# Altium integrated library Altium_WE-PDA (rev23a).IntLib: 84 symbols (part 1 of 2)
Pins are listed as number, name and electrical type; pins without a type are passive.

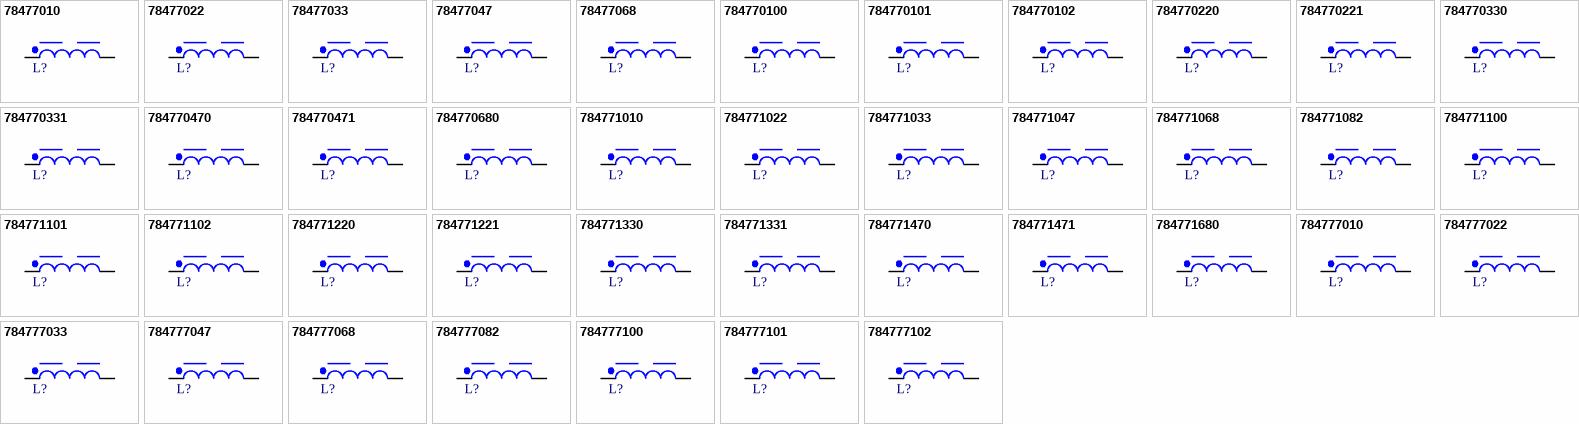
[diagram p0: symbols 78477010 to 784777102]

## 78477010
designator L?, comment 1uH  (value not drawn)
WE-PDA SMT Shielded Power Inductor, size 1280, 1uH, 8.3A, 9mOhm; Manufacturer Part Number: 78477010; Manufacturer: Wurth Elektronik; Case/Size Code: 1280; DC Resistance: 7.5mOhm; Saturation Current: 22A; Self Resonant Frequency: 144.7MHz; Category: Power Inductors; Match Code: WE-PDA; ComponentLink1Description: Website Link; ComponentLink1URL: https://www.we-online.com/redexpert/article/78477010?ad; ComponentLink2Description: Datasheet Link; ComponentLink2URL: https://www.we-online.com/redexpert/spec/78477010?ad; Mount: Surface Mount; Operating Temperature Max: 125°C; Operating Temperature Min: -40°C; Packaging: Tape and Reel; Length: 12mm; Width: 12mm; Height: 8mm; Automotive: Yes; DC Resistance Max: 9mOhm; Inductance: 1uH; Rated Current: 8.3A
footprint WE-PDA_1280
simulation model 1280_78477010_1u
pins: 1, 2

## 78477022
designator L?, comment 2.2uH  (value not drawn)
WE-PDA SMT Shielded Power Inductor, size 1280, 2.2uH, 7A, 14.5mOhm; Manufacturer Part Number: 78477022; Manufacturer: Wurth Elektronik; Case/Size Code: 1280; DC Resistance: 12mOhm; Saturation Current: 15A; Self Resonant Frequency: 85.6MHz; Category: Power Inductors; Match Code: WE-PDA; ComponentLink1Description: Website Link; ComponentLink1URL: https://www.we-online.com/redexpert/article/78477022?ad; ComponentLink2Description: Datasheet Link; ComponentLink2URL: https://www.we-online.com/redexpert/spec/78477022?ad; Mount: Surface Mount; Operating Temperature Max: 125°C; Operating Temperature Min: -40°C; Packaging: Tape and Reel; Length: 12mm; Width: 12mm; Height: 8mm; Automotive: Yes; DC Resistance Max: 14.5mOhm; Inductance: 2.2uH; Rated Current: 7A
footprint WE-PDA_1280
simulation model 1280_78477022_2.2u
pins: 1, 2

## 78477033
designator L?, comment 3.3uH  (value not drawn)
WE-PDA SMT Shielded Power Inductor, size 1280, 3.3uH, 6.6A, 17mOhm; Manufacturer Part Number: 78477033; Manufacturer: Wurth Elektronik; Case/Size Code: 1280; DC Resistance: 14mOhm; Saturation Current: 12A; Self Resonant Frequency: 72.5MHz; Category: Power Inductors; Match Code: WE-PDA; ComponentLink1Description: Website Link; ComponentLink1URL: https://www.we-online.com/redexpert/article/78477033?ad; ComponentLink2Description: Datasheet Link; ComponentLink2URL: https://www.we-online.com/redexpert/spec/78477033?ad; Mount: Surface Mount; Operating Temperature Max: 125°C; Operating Temperature Min: -40°C; Packaging: Tape and Reel; Length: 12mm; Width: 12mm; Height: 8mm; Automotive: Yes; DC Resistance Max: 17mOhm; Inductance: 3.3uH; Rated Current: 6.6A
footprint WE-PDA_1280
simulation model 1280_78477033_3.3u
pins: 1, 2

## 78477047
designator L?, comment 4.7uH  (value not drawn)
WE-PDA SMT Shielded Power Inductor, size 1280, 4.7uH, 6A, 20mOhm; Manufacturer Part Number: 78477047; Manufacturer: Wurth Elektronik; Case/Size Code: 1280; DC Resistance: 16.5mOhm; Saturation Current: 11A; Self Resonant Frequency: 58.1MHz; Category: Power Inductors; Match Code: WE-PDA; ComponentLink1Description: Website Link; ComponentLink1URL: https://www.we-online.com/redexpert/article/78477047?ad; ComponentLink2Description: Datasheet Link; ComponentLink2URL: https://www.we-online.com/redexpert/spec/78477047?ad; Mount: Surface Mount; Operating Temperature Max: 125°C; Operating Temperature Min: -40°C; Packaging: Tape and Reel; Length: 12mm; Width: 12mm; Height: 8mm; Automotive: Yes; DC Resistance Max: 20mOhm; Inductance: 4.7uH; Rated Current: 6A
footprint WE-PDA_1280
simulation model 1280_78477047_4.7u
pins: 1, 2

## 78477068
designator L?, comment 6.8uH  (value not drawn)
WE-PDA SMT Shielded Power Inductor, size 1280, 6.8uH, 5.2A, 25mOhm; Manufacturer Part Number: 78477068; Manufacturer: Wurth Elektronik; Case/Size Code: 1280; DC Resistance: 21mOhm; Saturation Current: 8.5A; Self Resonant Frequency: 42.1MHz; Category: Power Inductors; Match Code: WE-PDA; ComponentLink1Description: Website Link; ComponentLink1URL: https://www.we-online.com/redexpert/article/78477068?ad; ComponentLink2Description: Datasheet Link; ComponentLink2URL: https://www.we-online.com/redexpert/spec/78477068?ad; Mount: Surface Mount; Operating Temperature Max: 125°C; Operating Temperature Min: -40°C; Packaging: Tape and Reel; Length: 12mm; Width: 12mm; Height: 8mm; Automotive: Yes; DC Resistance Max: 25mOhm; Inductance: 6.8uH; Rated Current: 5.2A
footprint WE-PDA_1280
simulation model 1280_78477068_6.8u
pins: 1, 2

## 784770100
designator L?, comment 10uH  (value not drawn)
WE-PDA SMT Shielded Power Inductor, size 1280, 10uH, 5A, 31mOhm; Manufacturer Part Number: 784770100; Manufacturer: Wurth Elektronik; Case/Size Code: 1280; DC Resistance: 26mOhm; Saturation Current: 6.8A; Self Resonant Frequency: 28.3MHz; Category: Power Inductors; Match Code: WE-PDA; ComponentLink1Description: Website Link; ComponentLink1URL: https://www.we-online.com/redexpert/article/784770100?ad; ComponentLink2Description: Datasheet Link; ComponentLink2URL: https://www.we-online.com/redexpert/spec/784770100?ad; Mount: Surface Mount; Operating Temperature Max: 125°C; Operating Temperature Min: -40°C; Packaging: Tape and Reel; Length: 12mm; Width: 12mm; Height: 8mm; Automotive: Yes; DC Resistance Max: 31mOhm; Inductance: 10uH; Rated Current: 5A
footprint WE-PDA_1280
simulation model 1280_784770100_10u
pins: 1, 2

## 784770101
designator L?, comment 100uH  (value not drawn)
WE-PDA SMT Shielded Power Inductor, size 1280, 100uH, 2.1A, 144mOhm; Manufacturer Part Number: 784770101; Manufacturer: Wurth Elektronik; Case/Size Code: 1280; DC Resistance: 120mOhm; Saturation Current: 2.3A; Self Resonant Frequency: 5.2MHz; Category: Power Inductors; Match Code: WE-PDA; ComponentLink1Description: Website Link; ComponentLink1URL: https://www.we-online.com/redexpert/article/784770101?ad; ComponentLink2Description: Datasheet Link; ComponentLink2URL: https://www.we-online.com/redexpert/spec/784770101?ad; Mount: Surface Mount; Operating Temperature Max: 125°C; Operating Temperature Min: -40°C; Packaging: Tape and Reel; Length: 12mm; Width: 12mm; Height: 8mm; Automotive: Yes; DC Resistance Max: 144mOhm; Inductance: 100uH; Rated Current: 2.1A
footprint WE-PDA_1280
simulation model 1280_784770101_100u
pins: 1, 2

## 784770102
designator L?, comment 1000uH  (value not drawn)
WE-PDA SMT Shielded Power Inductor, size 1280, 1000uH, 0.72A, 1200mOhm; Manufacturer Part Number: 784770102; Manufacturer: Wurth Elektronik; Case/Size Code: 1280; DC Resistance: 1000mOhm; Saturation Current: 0.8A; Self Resonant Frequency: 1.6MHz; Category: Power Inductors; Match Code: WE-PDA; ComponentLink1Description: Website Link; ComponentLink1URL: https://www.we-online.com/redexpert/article/784770102?ad; ComponentLink2Description: Datasheet Link; ComponentLink2URL: https://www.we-online.com/redexpert/spec/784770102?ad; Mount: Surface Mount; Operating Temperature Max: 125°C; Operating Temperature Min: -40°C; Packaging: Tape and Reel; Length: 12mm; Width: 12mm; Height: 8mm; Automotive: Yes; DC Resistance Max: 1200mOhm; Inductance: 1000uH; Rated Current: 0.72A
footprint WE-PDA_1280
simulation model 1280_784770102_1000u
pins: 1, 2

## 784770220
designator L?, comment 22uH  (value not drawn)
WE-PDA SMT Shielded Power Inductor, size 1280, 22uH, 4A, 44.5mOhm; Manufacturer Part Number: 784770220; Manufacturer: Wurth Elektronik; Case/Size Code: 1280; DC Resistance: 37mOhm; Saturation Current: 4.7A; Self Resonant Frequency: 15.6MHz; Category: Power Inductors; Match Code: WE-PDA; ComponentLink1Description: Website Link; ComponentLink1URL: https://www.we-online.com/redexpert/article/784770220?ad; ComponentLink2Description: Datasheet Link; ComponentLink2URL: https://www.we-online.com/redexpert/spec/784770220?ad; Mount: Surface Mount; Operating Temperature Max: 125°C; Operating Temperature Min: -40°C; Packaging: Tape and Reel; Length: 12mm; Width: 12mm; Height: 8mm; Automotive: Yes; DC Resistance Max: 44.5mOhm; Inductance: 22uH; Rated Current: 4A
footprint WE-PDA_1280
simulation model 1280_784770220_22u
pins: 1, 2

## 784770221
designator L?, comment 220uH  (value not drawn)
WE-PDA SMT Shielded Power Inductor, size 1280, 220uH, 1.2A, 300mOhm; Manufacturer Part Number: 784770221; Manufacturer: Wurth Elektronik; Case/Size Code: 1280; DC Resistance: 250mOhm; Saturation Current: 1.4A; Self Resonant Frequency: 3.3MHz; Category: Power Inductors; Match Code: WE-PDA; ComponentLink1Description: Website Link; ComponentLink1URL: https://www.we-online.com/redexpert/article/784770221?ad; ComponentLink2Description: Datasheet Link; ComponentLink2URL: https://www.we-online.com/redexpert/spec/784770221?ad; Mount: Surface Mount; Operating Temperature Max: 125°C; Operating Temperature Min: -40°C; Packaging: Tape and Reel; Length: 12mm; Width: 12mm; Height: 8mm; Automotive: Yes; DC Resistance Max: 300mOhm; Inductance: 220uH; Rated Current: 1.2A
footprint WE-PDA_1280
simulation model 1280_784770221_220u
pins: 1, 2

## 784770330
designator L?, comment 33uH  (value not drawn)
WE-PDA SMT Shielded Power Inductor, size 1280, 33uH, 3.4A, 55mOhm; Manufacturer Part Number: 784770330; Manufacturer: Wurth Elektronik; Case/Size Code: 1280; DC Resistance: 45.8mOhm; Saturation Current: 4A; Self Resonant Frequency: 9.7MHz; Category: Power Inductors; Match Code: WE-PDA; ComponentLink1Description: Website Link; ComponentLink1URL: https://www.we-online.com/redexpert/article/784770330?ad; ComponentLink2Description: Datasheet Link; ComponentLink2URL: https://www.we-online.com/redexpert/spec/784770330?ad; Mount: Surface Mount; Operating Temperature Max: 125°C; Operating Temperature Min: -40°C; Packaging: Tape and Reel; Length: 12mm; Width: 12mm; Height: 8mm; Automotive: Yes; DC Resistance Max: 55mOhm; Inductance: 33uH; Rated Current: 3.4A
footprint WE-PDA_1280
simulation model 1280_784770330_33u
pins: 1, 2

## 784770331
designator L?, comment 330uH  (value not drawn)
WE-PDA SMT Shielded Power Inductor, size 1280, 330uH, 1A, 468mOhm; Manufacturer Part Number: 784770331; Manufacturer: Wurth Elektronik; Case/Size Code: 1280; DC Resistance: 390mOhm; Saturation Current: 1.2A; Self Resonant Frequency: 2.5MHz; Category: Power Inductors; Match Code: WE-PDA; ComponentLink1Description: Website Link; ComponentLink1URL: https://www.we-online.com/redexpert/article/784770331?ad; ComponentLink2Description: Datasheet Link; ComponentLink2URL: https://www.we-online.com/redexpert/spec/784770331?ad; Mount: Surface Mount; Operating Temperature Max: 125°C; Operating Temperature Min: -40°C; Packaging: Tape and Reel; Length: 12mm; Width: 12mm; Height: 8mm; Automotive: Yes; DC Resistance Max: 468mOhm; Inductance: 330uH; Rated Current: 1A
footprint WE-PDA_1280
simulation model 1280_784770331_330u
pins: 1, 2

## 784770470
designator L?, comment 47uH  (value not drawn)
WE-PDA SMT Shielded Power Inductor, size 1280, 47uH, 3.1A, 71mOhm; Manufacturer Part Number: 784770470; Manufacturer: Wurth Elektronik; Case/Size Code: 1280; DC Resistance: 59mOhm; Saturation Current: 3.4A; Self Resonant Frequency: 7.9MHz; Category: Power Inductors; Match Code: WE-PDA; ComponentLink1Description: Website Link; ComponentLink1URL: https://www.we-online.com/redexpert/article/784770470?ad; ComponentLink2Description: Datasheet Link; ComponentLink2URL: https://www.we-online.com/redexpert/spec/784770470?ad; Mount: Surface Mount; Operating Temperature Max: 125°C; Operating Temperature Min: -40°C; Packaging: Tape and Reel; Length: 12mm; Width: 12mm; Height: 8mm; Automotive: Yes; DC Resistance Max: 71mOhm; Inductance: 47uH; Rated Current: 3.1A
footprint WE-PDA_1280
simulation model 1280_784770470_47u
pins: 1, 2

## 784770471
designator L?, comment 470uH  (value not drawn)
WE-PDA SMT Shielded Power Inductor, size 1280, 470uH, 0.8A, 570mOhm; Manufacturer Part Number: 784770471; Manufacturer: Wurth Elektronik; Case/Size Code: 1280; DC Resistance: 475mOhm; Saturation Current: 1A; Self Resonant Frequency: 2MHz; Category: Power Inductors; Match Code: WE-PDA; ComponentLink1Description: Website Link; ComponentLink1URL: https://www.we-online.com/redexpert/article/784770471?ad; ComponentLink2Description: Datasheet Link; ComponentLink2URL: https://www.we-online.com/redexpert/spec/784770471?ad; Mount: Surface Mount; Operating Temperature Max: 125°C; Operating Temperature Min: -40°C; Packaging: Tape and Reel; Length: 12mm; Width: 12mm; Height: 8mm; Automotive: Yes; DC Resistance Max: 570mOhm; Inductance: 470uH; Rated Current: 0.8A
footprint WE-PDA_1280
simulation model 1280_784770471_470u
pins: 1, 2

## 784770680
designator L?, comment 68uH  (value not drawn)
WE-PDA SMT Shielded Power Inductor, size 1280, 68uH, 2.6A, 98.5mOhm; Manufacturer Part Number: 784770680; Manufacturer: Wurth Elektronik; Case/Size Code: 1280; DC Resistance: 82mOhm; Saturation Current: 2.8A; Self Resonant Frequency: 6.3MHz; Category: Power Inductors; Match Code: WE-PDA; ComponentLink1Description: Website Link; ComponentLink1URL: https://www.we-online.com/redexpert/article/784770680?ad; ComponentLink2Description: Datasheet Link; ComponentLink2URL: https://www.we-online.com/redexpert/spec/784770680?ad; Mount: Surface Mount; Operating Temperature Max: 125°C; Operating Temperature Min: -40°C; Packaging: Tape and Reel; Length: 12mm; Width: 12mm; Height: 8mm; Automotive: Yes; DC Resistance Max: 98.5mOhm; Inductance: 68uH; Rated Current: 2.6A
footprint WE-PDA_1280
simulation model 1280_784770680_68u
pins: 1, 2

## 784771010
designator L?, comment 1uH  (value not drawn)
WE-PDA SMT Shielded Power Inductor, size 1260, 1uH, 9A, 8.5mOhm; Manufacturer Part Number: 784771010; Manufacturer: Wurth Elektronik; Case/Size Code: 1260; DC Resistance: 7mOhm; Saturation Current: 16.5A; Self Resonant Frequency: 139.4MHz; Category: Power Inductors; Match Code: WE-PDA; ComponentLink1Description: Website Link; ComponentLink1URL: https://www.we-online.com/redexpert/article/784771010?ad; ComponentLink2Description: Datasheet Link; ComponentLink2URL: https://www.we-online.com/redexpert/spec/784771010?ad; Mount: Surface Mount; Operating Temperature Max: 125°C; Operating Temperature Min: -40°C; Packaging: Tape and Reel; Length: 12mm; Width: 12mm; Height: 6mm; Automotive: Yes; DC Resistance Max: 8.5mOhm; Inductance: 1uH; Rated Current: 9A
footprint WE-PDA_1260
simulation model 1260_784771010_1u
pins: 1, 2

## 784771022
designator L?, comment 2.2uH  (value not drawn)
WE-PDA SMT Shielded Power Inductor, size 1260, 2.2uH, 7.2A, 12.5mOhm; Manufacturer Part Number: 784771022; Manufacturer: Wurth Elektronik; Case/Size Code: 1260; DC Resistance: 10.5mOhm; Saturation Current: 10.5A; Self Resonant Frequency: 82.7MHz; Category: Power Inductors; Match Code: WE-PDA; ComponentLink1Description: Website Link; ComponentLink1URL: https://www.we-online.com/redexpert/article/784771022?ad; ComponentLink2Description: Datasheet Link; ComponentLink2URL: https://www.we-online.com/redexpert/spec/784771022?ad; Mount: Surface Mount; Operating Temperature Max: 125°C; Operating Temperature Min: -40°C; Packaging: Tape and Reel; Length: 12mm; Width: 12mm; Height: 6mm; Automotive: Yes; DC Resistance Max: 12.5mOhm; Inductance: 2.2uH; Rated Current: 7.2A
footprint WE-PDA_1260
simulation model 1260_784771022_2.2u
pins: 1, 2

## 784771033
designator L?, comment 3.3uH  (value not drawn)
WE-PDA SMT Shielded Power Inductor, size 1260, 3.3uH, 6.5A, 14.5mOhm; Manufacturer Part Number: 784771033; Manufacturer: Wurth Elektronik; Case/Size Code: 1260; DC Resistance: 12mOhm; Saturation Current: 9A; Self Resonant Frequency: 68.1MHz; Category: Power Inductors; Match Code: WE-PDA; ComponentLink1Description: Website Link; ComponentLink1URL: https://www.we-online.com/redexpert/article/784771033?ad; ComponentLink2Description: Datasheet Link; ComponentLink2URL: https://www.we-online.com/redexpert/spec/784771033?ad; Mount: Surface Mount; Operating Temperature Max: 125°C; Operating Temperature Min: -40°C; Packaging: Tape and Reel; Length: 12mm; Width: 12mm; Height: 6mm; Automotive: Yes; DC Resistance Max: 14.5mOhm; Inductance: 3.3uH; Rated Current: 6.5A
footprint WE-PDA_1260
simulation model 1260_784771033_3.3u
pins: 1, 2

## 784771047
designator L?, comment 4.7uH  (value not drawn)
WE-PDA SMT Shielded Power Inductor, size 1260, 4.7uH, 6.2A, 17.5mOhm; Manufacturer Part Number: 784771047; Manufacturer: Wurth Elektronik; Case/Size Code: 1260; DC Resistance: 14.5mOhm; Saturation Current: 8A; Self Resonant Frequency: 49.8MHz; Category: Power Inductors; Match Code: WE-PDA; ComponentLink1Description: Website Link; ComponentLink1URL: https://www.we-online.com/redexpert/article/784771047?ad; ComponentLink2Description: Datasheet Link; ComponentLink2URL: https://www.we-online.com/redexpert/spec/784771047?ad; Mount: Surface Mount; Operating Temperature Max: 125°C; Operating Temperature Min: -40°C; Packaging: Tape and Reel; Length: 12mm; Width: 12mm; Height: 6mm; Automotive: Yes; DC Resistance Max: 17.5mOhm; Inductance: 4.7uH; Rated Current: 6.2A
footprint WE-PDA_1260
simulation model 1260_784771047_4.7u
pins: 1, 2

## 784771068
designator L?, comment 6.8uH  (value not drawn)
WE-PDA SMT Shielded Power Inductor, size 1260, 6.8uH, 5.5A, 21.5mOhm; Manufacturer Part Number: 784771068; Manufacturer: Wurth Elektronik; Case/Size Code: 1260; DC Resistance: 18mOhm; Saturation Current: 6A; Self Resonant Frequency: 25.5MHz; Category: Power Inductors; Match Code: WE-PDA; ComponentLink1Description: Website Link; ComponentLink1URL: https://www.we-online.com/redexpert/article/784771068?ad; ComponentLink2Description: Datasheet Link; ComponentLink2URL: https://www.we-online.com/redexpert/spec/784771068?ad; Mount: Surface Mount; Operating Temperature Max: 125°C; Operating Temperature Min: -40°C; Packaging: Tape and Reel; Length: 12mm; Width: 12mm; Height: 6mm; Automotive: Yes; DC Resistance Max: 21.5mOhm; Inductance: 6.8uH; Rated Current: 5.5A
footprint WE-PDA_1260
simulation model 1260_784771068_6.8u
pins: 1, 2

## 784771082
designator L?, comment 8.2uH  (value not drawn)
WE-PDA SMT Shielded Power Inductor, size 1260, 8.2uH, 5.05A, 24mOhm; Manufacturer Part Number: 784771082; Manufacturer: Wurth Elektronik; Case/Size Code: 1260; DC Resistance: 20mOhm; Saturation Current: 5.5A; Self Resonant Frequency: 25.2MHz; Category: Power Inductors; Match Code: WE-PDA; ComponentLink1Description: Website Link; ComponentLink1URL: https://www.we-online.com/redexpert/article/784771082?ad; ComponentLink2Description: Datasheet Link; ComponentLink2URL: https://www.we-online.com/redexpert/spec/784771082?ad; Mount: Surface Mount; Operating Temperature Max: 125°C; Operating Temperature Min: -40°C; Packaging: Tape and Reel; Length: 12mm; Width: 12mm; Height: 6mm; Automotive: Yes; DC Resistance Max: 24mOhm; Inductance: 8.2uH; Rated Current: 5.05A
footprint WE-PDA_1260
simulation model 1260_784771082_8.2u
pins: 1, 2

## 784771100
designator L?, comment 10uH  (value not drawn)
WE-PDA SMT Shielded Power Inductor, size 1260, 10uH, 5A, 26.5mOhm; Manufacturer Part Number: 784771100; Manufacturer: Wurth Elektronik; Case/Size Code: 1260; DC Resistance: 22mOhm; Saturation Current: 5.25A; Self Resonant Frequency: 22.3MHz; Category: Power Inductors; Match Code: WE-PDA; ComponentLink1Description: Website Link; ComponentLink1URL: https://www.we-online.com/redexpert/article/784771100?ad; ComponentLink2Description: Datasheet Link; ComponentLink2URL: https://www.we-online.com/redexpert/spec/784771100?ad; Mount: Surface Mount; Operating Temperature Max: 125°C; Operating Temperature Min: -40°C; Packaging: Tape and Reel; Length: 12mm; Width: 12mm; Height: 6mm; Automotive: Yes; DC Resistance Max: 26.5mOhm; Inductance: 10uH; Rated Current: 5A
footprint WE-PDA_1260
simulation model 1260_784771100_10u
pins: 1, 2

## 784771101
designator L?, comment 100uH  (value not drawn)
WE-PDA SMT Shielded Power Inductor, size 1260, 100uH, 1.5A, 174mOhm; Manufacturer Part Number: 784771101; Manufacturer: Wurth Elektronik; Case/Size Code: 1260; DC Resistance: 145mOhm; Saturation Current: 1.7A; Self Resonant Frequency: 6.5MHz; Category: Power Inductors; Match Code: WE-PDA; ComponentLink1Description: Website Link; ComponentLink1URL: https://www.we-online.com/redexpert/article/784771101?ad; ComponentLink2Description: Datasheet Link; ComponentLink2URL: https://www.we-online.com/redexpert/spec/784771101?ad; Mount: Surface Mount; Operating Temperature Max: 125°C; Operating Temperature Min: -40°C; Packaging: Tape and Reel; Length: 12mm; Width: 12mm; Height: 6mm; Automotive: Yes; DC Resistance Max: 174mOhm; Inductance: 100uH; Rated Current: 1.5A
footprint WE-PDA_1260
simulation model 1260_784771101_100u
pins: 1, 2

## 784771102
designator L?, comment 1000uH  (value not drawn)
WE-PDA SMT Shielded Power Inductor, size 1260, 1000uH, 0.48A, 1705mOhm; Manufacturer Part Number: 784771102; Manufacturer: Wurth Elektronik; Case/Size Code: 1260; DC Resistance: 1420mOhm; Saturation Current: 0.53A; Self Resonant Frequency: 1.9MHz; Category: Power Inductors; Match Code: WE-PDA; ComponentLink1Description: Website Link; ComponentLink1URL: https://www.we-online.com/redexpert/article/784771102?ad; ComponentLink2Description: Datasheet Link; ComponentLink2URL: https://www.we-online.com/redexpert/spec/784771102?ad; Mount: Surface Mount; Operating Temperature Max: 125°C; Operating Temperature Min: -40°C; Packaging: Tape and Reel; Length: 12mm; Width: 12mm; Height: 6mm; Automotive: Yes; DC Resistance Max: 1705mOhm; Inductance: 1000uH; Rated Current: 0.48A
footprint WE-PDA_1260
simulation model 1260_784771102_1000u
pins: 1, 2

## 784771220
designator L?, comment 22uH  (value not drawn)
WE-PDA SMT Shielded Power Inductor, size 1260, 22uH, 3.2A, 40mOhm; Manufacturer Part Number: 784771220; Manufacturer: Wurth Elektronik; Case/Size Code: 1260; DC Resistance: 33.5mOhm; Saturation Current: 3.5A; Self Resonant Frequency: 14.9MHz; Category: Power Inductors; Match Code: WE-PDA; ComponentLink1Description: Website Link; ComponentLink1URL: https://www.we-online.com/redexpert/article/784771220?ad; ComponentLink2Description: Datasheet Link; ComponentLink2URL: https://www.we-online.com/redexpert/spec/784771220?ad; Mount: Surface Mount; Operating Temperature Max: 125°C; Operating Temperature Min: -40°C; Packaging: Tape and Reel; Length: 12mm; Width: 12mm; Height: 6mm; Automotive: Yes; DC Resistance Max: 40mOhm; Inductance: 22uH; Rated Current: 3.2A
footprint WE-PDA_1260
simulation model 1260_784771220_22u
pins: 1, 2

## 784771221
designator L?, comment 220uH  (value not drawn)
WE-PDA SMT Shielded Power Inductor, size 1260, 220uH, 0.99A, 348mOhm; Manufacturer Part Number: 784771221; Manufacturer: Wurth Elektronik; Case/Size Code: 1260; DC Resistance: 290mOhm; Saturation Current: 1.1A; Self Resonant Frequency: 3.9MHz; Category: Power Inductors; Match Code: WE-PDA; ComponentLink1Description: Website Link; ComponentLink1URL: https://www.we-online.com/redexpert/article/784771221?ad; ComponentLink2Description: Datasheet Link; ComponentLink2URL: https://www.we-online.com/redexpert/spec/784771221?ad; Mount: Surface Mount; Operating Temperature Max: 125°C; Operating Temperature Min: -40°C; Packaging: Tape and Reel; Length: 12mm; Width: 12mm; Height: 6mm; Automotive: Yes; DC Resistance Max: 348mOhm; Inductance: 220uH; Rated Current: 0.99A
footprint WE-PDA_1260
simulation model 1260_784771221_220u
pins: 1, 2

## 784771330
designator L?, comment 33uH  (value not drawn)
WE-PDA SMT Shielded Power Inductor, size 1260, 33uH, 2.8A, 62.5mOhm; Manufacturer Part Number: 784771330; Manufacturer: Wurth Elektronik; Case/Size Code: 1260; DC Resistance: 52mOhm; Saturation Current: 2.9A; Self Resonant Frequency: 11.5MHz; Category: Power Inductors; Match Code: WE-PDA; ComponentLink1Description: Website Link; ComponentLink1URL: https://www.we-online.com/redexpert/article/784771330?ad; ComponentLink2Description: Datasheet Link; ComponentLink2URL: https://www.we-online.com/redexpert/spec/784771330?ad; Mount: Surface Mount; Operating Temperature Max: 125°C; Operating Temperature Min: -40°C; Packaging: Tape and Reel; Length: 12mm; Width: 12mm; Height: 6mm; Automotive: Yes; DC Resistance Max: 62.5mOhm; Inductance: 33uH; Rated Current: 2.8A
footprint WE-PDA_1260
simulation model 1260_784771330_33u
pins: 1, 2

## 784771331
designator L?, comment 330uH  (value not drawn)
WE-PDA SMT Shielded Power Inductor, size 1260, 330uH, 0.8A, 594mOhm; Manufacturer Part Number: 784771331; Manufacturer: Wurth Elektronik; Case/Size Code: 1260; DC Resistance: 495mOhm; Saturation Current: 0.9A; Self Resonant Frequency: 3.3MHz; Category: Power Inductors; Match Code: WE-PDA; ComponentLink1Description: Website Link; ComponentLink1URL: https://www.we-online.com/redexpert/article/784771331?ad; ComponentLink2Description: Datasheet Link; ComponentLink2URL: https://www.we-online.com/redexpert/spec/784771331?ad; Mount: Surface Mount; Operating Temperature Max: 125°C; Operating Temperature Min: -40°C; Packaging: Tape and Reel; Length: 12mm; Width: 12mm; Height: 6mm; Automotive: Yes; DC Resistance Max: 594mOhm; Inductance: 330uH; Rated Current: 0.8A
footprint WE-PDA_1260
simulation model 1260_784771331_330u
pins: 1, 2

## 784771470
designator L?, comment 47uH  (value not drawn)
WE-PDA SMT Shielded Power Inductor, size 1260, 47uH, 2.3A, 77mOhm; Manufacturer Part Number: 784771470; Manufacturer: Wurth Elektronik; Case/Size Code: 1260; DC Resistance: 64mOhm; Saturation Current: 2.5A; Self Resonant Frequency: 10.1MHz; Category: Power Inductors; Match Code: WE-PDA; ComponentLink1Description: Website Link; ComponentLink1URL: https://www.we-online.com/redexpert/article/784771470?ad; ComponentLink2Description: Datasheet Link; ComponentLink2URL: https://www.we-online.com/redexpert/spec/784771470?ad; Mount: Surface Mount; Operating Temperature Max: 125°C; Operating Temperature Min: -40°C; Packaging: Tape and Reel; Length: 12mm; Width: 12mm; Height: 6mm; Automotive: Yes; DC Resistance Max: 77mOhm; Inductance: 47uH; Rated Current: 2.3A
footprint WE-PDA_1260
simulation model 1260_784771470_47u
pins: 1, 2

## 784771471
designator L?, comment 470uH  (value not drawn)
WE-PDA SMT Shielded Power Inductor, size 1260, 470uH, 0.65A, 706mOhm; Manufacturer Part Number: 784771471; Manufacturer: Wurth Elektronik; Case/Size Code: 1260; DC Resistance: 588mOhm; Saturation Current: 0.75A; Self Resonant Frequency: 2.9MHz; Category: Power Inductors; Match Code: WE-PDA; ComponentLink1Description: Website Link; ComponentLink1URL: https://www.we-online.com/redexpert/article/784771471?ad; ComponentLink2Description: Datasheet Link; ComponentLink2URL: https://www.we-online.com/redexpert/spec/784771471?ad; Mount: Surface Mount; Operating Temperature Max: 125°C; Operating Temperature Min: -40°C; Packaging: Tape and Reel; Length: 12mm; Width: 12mm; Height: 6mm; Automotive: Yes; DC Resistance Max: 706mOhm; Inductance: 470uH; Rated Current: 0.65A
footprint WE-PDA_1260
simulation model 1260_784771471_470u
pins: 1, 2

## 784771680
designator L?, comment 68uH  (value not drawn)
WE-PDA SMT Shielded Power Inductor, size 1260, 68uH, 1.8A, 138mOhm; Manufacturer Part Number: 784771680; Manufacturer: Wurth Elektronik; Case/Size Code: 1260; DC Resistance: 115mOhm; Saturation Current: 2A; Self Resonant Frequency: 8MHz; Category: Power Inductors; Match Code: WE-PDA; ComponentLink1Description: Website Link; ComponentLink1URL: https://www.we-online.com/redexpert/article/784771680?ad; ComponentLink2Description: Datasheet Link; ComponentLink2URL: https://www.we-online.com/redexpert/spec/784771680?ad; Mount: Surface Mount; Operating Temperature Max: 125°C; Operating Temperature Min: -40°C; Packaging: Tape and Reel; Length: 12mm; Width: 12mm; Height: 6mm; Automotive: Yes; DC Resistance Max: 138mOhm; Inductance: 68uH; Rated Current: 1.8A
footprint WE-PDA_1260
simulation model 1260_784771680_68u
pins: 1, 2

## 784777010
designator L?, comment 1uH  (value not drawn)
WE-PDA SMT Shielded Power Inductor, size 7345, 1uH, 3.7A, 38.5mOhm; Manufacturer Part Number: 784777010; Manufacturer: Wurth Elektronik; Case/Size Code: 7345; DC Resistance: 32mOhm; Saturation Current: 8A; Self Resonant Frequency: 195MHz; Category: Power Inductors; Match Code: WE-PDA; ComponentLink1Description: Website Link; ComponentLink1URL: https://www.we-online.com/redexpert/article/784777010?ad; ComponentLink2Description: Datasheet Link; ComponentLink2URL: https://www.we-online.com/redexpert/spec/784777010?ad; Mount: Surface Mount; Operating Temperature Max: 125°C; Operating Temperature Min: -40°C; Packaging: Tape and Reel; Length: 7.3mm; Width: 7.3mm; Height: 4mm; Automotive: Yes; DC Resistance Max: 38.5mOhm; Inductance: 1uH; Rated Current: 3.7A
footprint WE-PDA_7345
simulation model 7345_784777010_1u
pins: 1, 2

## 784777022
designator L?, comment 2.2uH  (value not drawn)
WE-PDA SMT Shielded Power Inductor, size 7345, 2.2uH, 2.7A, 61mOhm; Manufacturer Part Number: 784777022; Manufacturer: Wurth Elektronik; Case/Size Code: 7345; DC Resistance: 51mOhm; Saturation Current: 5.25A; Self Resonant Frequency: 95.2MHz; Category: Power Inductors; Match Code: WE-PDA; ComponentLink1Description: Website Link; ComponentLink1URL: https://www.we-online.com/redexpert/article/784777022?ad; ComponentLink2Description: Datasheet Link; ComponentLink2URL: https://www.we-online.com/redexpert/spec/784777022?ad; Mount: Surface Mount; Operating Temperature Max: 125°C; Operating Temperature Min: -40°C; Packaging: Tape and Reel; Length: 7.3mm; Width: 7.3mm; Height: 4mm; Automotive: Yes; DC Resistance Max: 61mOhm; Inductance: 2.2uH; Rated Current: 2.7A
footprint WE-PDA_7345
simulation model 7345_784777022_2.2u
pins: 1, 2

## 784777033
designator L?, comment 3.3uH  (value not drawn)
WE-PDA SMT Shielded Power Inductor, size 7345, 3.3uH, 2.5A, 70mOhm; Manufacturer Part Number: 784777033; Manufacturer: Wurth Elektronik; Case/Size Code: 7345; DC Resistance: 58mOhm; Saturation Current: 4.7A; Self Resonant Frequency: 87.5MHz; Category: Power Inductors; Match Code: WE-PDA; ComponentLink1Description: Website Link; ComponentLink1URL: https://www.we-online.com/redexpert/article/784777033?ad; ComponentLink2Description: Datasheet Link; ComponentLink2URL: https://www.we-online.com/redexpert/spec/784777033?ad; Mount: Surface Mount; Operating Temperature Max: 125°C; Operating Temperature Min: -40°C; Packaging: Tape and Reel; Length: 7.3mm; Width: 7.3mm; Height: 4mm; Automotive: Yes; DC Resistance Max: 70mOhm; Inductance: 3.3uH; Rated Current: 2.5A
footprint WE-PDA_7345
simulation model 7345_784777033_3.3u
pins: 1, 2

## 784777047
designator L?, comment 4.7uH  (value not drawn)
WE-PDA SMT Shielded Power Inductor, size 7345, 4.7uH, 2.35A, 84mOhm; Manufacturer Part Number: 784777047; Manufacturer: Wurth Elektronik; Case/Size Code: 7345; DC Resistance: 70mOhm; Saturation Current: 3.7A; Self Resonant Frequency: 64.7MHz; Category: Power Inductors; Match Code: WE-PDA; ComponentLink1Description: Website Link; ComponentLink1URL: https://www.we-online.com/redexpert/article/784777047?ad; ComponentLink2Description: Datasheet Link; ComponentLink2URL: https://www.we-online.com/redexpert/spec/784777047?ad; Mount: Surface Mount; Operating Temperature Max: 125°C; Operating Temperature Min: -40°C; Packaging: Tape and Reel; Length: 7.3mm; Width: 7.3mm; Height: 4mm; Automotive: Yes; DC Resistance Max: 84mOhm; Inductance: 4.7uH; Rated Current: 2.35A
footprint WE-PDA_7345
simulation model 7345_784777047_4.7u
pins: 1, 2

## 784777068
designator L?, comment 6.8uH  (value not drawn)
WE-PDA SMT Shielded Power Inductor, size 7345, 6.8uH, 2.2A, 98mOhm; Manufacturer Part Number: 784777068; Manufacturer: Wurth Elektronik; Case/Size Code: 7345; DC Resistance: 83mOhm; Saturation Current: 3.2A; Self Resonant Frequency: 47.3MHz; Category: Power Inductors; Match Code: WE-PDA; ComponentLink1Description: Website Link; ComponentLink1URL: https://www.we-online.com/redexpert/article/784777068?ad; ComponentLink2Description: Datasheet Link; ComponentLink2URL: https://www.we-online.com/redexpert/spec/784777068?ad; Mount: Surface Mount; Operating Temperature Max: 125°C; Operating Temperature Min: -40°C; Packaging: Tape and Reel; Length: 7.3mm; Width: 7.3mm; Height: 4mm; Automotive: Yes; DC Resistance Max: 98mOhm; Inductance: 6.8uH; Rated Current: 2.2A
footprint WE-PDA_7345
simulation model 7345_784777068_6.8u
pins: 1, 2

## 784777082
designator L?, comment 8.2uH  (value not drawn)
WE-PDA SMT Shielded Power Inductor, size 7345, 8.2uH, 2A, 117mOhm; Manufacturer Part Number: 784777082; Manufacturer: Wurth Elektronik; Case/Size Code: 7345; DC Resistance: 97.5mOhm; Saturation Current: 2.8A; Self Resonant Frequency: 36.7MHz; Category: Power Inductors; Match Code: WE-PDA; ComponentLink1Description: Website Link; ComponentLink1URL: https://www.we-online.com/redexpert/article/784777082?ad; ComponentLink2Description: Datasheet Link; ComponentLink2URL: https://www.we-online.com/redexpert/spec/784777082?ad; Mount: Surface Mount; Operating Temperature Max: 125°C; Operating Temperature Min: -40°C; Packaging: Tape and Reel; Length: 7.3mm; Width: 7.3mm; Height: 4mm; Automotive: Yes; DC Resistance Max: 117mOhm; Inductance: 8.2uH; Rated Current: 2A
footprint WE-PDA_7345
simulation model 7345_784777082_8.2u
pins: 1, 2

## 784777100
designator L?, comment 10uH  (value not drawn)
WE-PDA SMT Shielded Power Inductor, size 7345, 10uH, 1.9A, 126mOhm; Manufacturer Part Number: 784777100; Manufacturer: Wurth Elektronik; Case/Size Code: 7345; DC Resistance: 105mOhm; Saturation Current: 2.6A; Self Resonant Frequency: 32.5MHz; Category: Power Inductors; Match Code: WE-PDA; ComponentLink1Description: Website Link; ComponentLink1URL: https://www.we-online.com/redexpert/article/784777100?ad; ComponentLink2Description: Datasheet Link; ComponentLink2URL: https://www.we-online.com/redexpert/spec/784777100?ad; Mount: Surface Mount; Operating Temperature Max: 125°C; Operating Temperature Min: -40°C; Packaging: Tape and Reel; Length: 7.3mm; Width: 7.3mm; Height: 4mm; Automotive: Yes; DC Resistance Max: 126mOhm; Inductance: 10uH; Rated Current: 1.9A
footprint WE-PDA_7345
simulation model 7345_784777100_10u
pins: 1, 2

## 784777101
designator L?, comment 100uH  (value not drawn)
WE-PDA SMT Shielded Power Inductor, size 7345, 100uH, 0.72A, 470mOhm; Manufacturer Part Number: 784777101; Manufacturer: Wurth Elektronik; Case/Size Code: 7345; DC Resistance: 390mOhm; Saturation Current: 0.8A; Self Resonant Frequency: 7.5MHz; Category: Power Inductors; Match Code: WE-PDA; ComponentLink1Description: Website Link; ComponentLink1URL: https://www.we-online.com/redexpert/article/784777101?ad; ComponentLink2Description: Datasheet Link; ComponentLink2URL: https://www.we-online.com/redexpert/spec/784777101?ad; Mount: Surface Mount; Operating Temperature Max: 125°C; Operating Temperature Min: -40°C; Packaging: Tape and Reel; Length: 7.3mm; Width: 7.3mm; Height: 4mm; Automotive: Yes; DC Resistance Max: 470mOhm; Inductance: 100uH; Rated Current: 0.72A
footprint WE-PDA_7345
simulation model 7345_784777101_100u
pins: 1, 2

## 784777102
designator L?, comment 1000uH  (value not drawn)
WE-PDA SMT Shielded Power Inductor, size 7345, 1000uH, 0.25A, 5750mOhm; Manufacturer Part Number: 784777102; Manufacturer: Wurth Elektronik; Case/Size Code: 7345; DC Resistance: 4800mOhm; Saturation Current: 0.28A; Self Resonant Frequency: 2MHz; Category: Power Inductors; Match Code: WE-PDA; ComponentLink1Description: Website Link; ComponentLink1URL: https://www.we-online.com/redexpert/article/784777102?ad; ComponentLink2Description: Datasheet Link; ComponentLink2URL: https://www.we-online.com/redexpert/spec/784777102?ad; Mount: Surface Mount; Operating Temperature Max: 125°C; Operating Temperature Min: -40°C; Packaging: Tape and Reel; Length: 7.3mm; Width: 7.3mm; Height: 4mm; Automotive: Yes; DC Resistance Max: 5750mOhm; Inductance: 1000uH; Rated Current: 0.25A
footprint WE-PDA_7345
simulation model 7345_784777102_1000u
pins: 1, 2

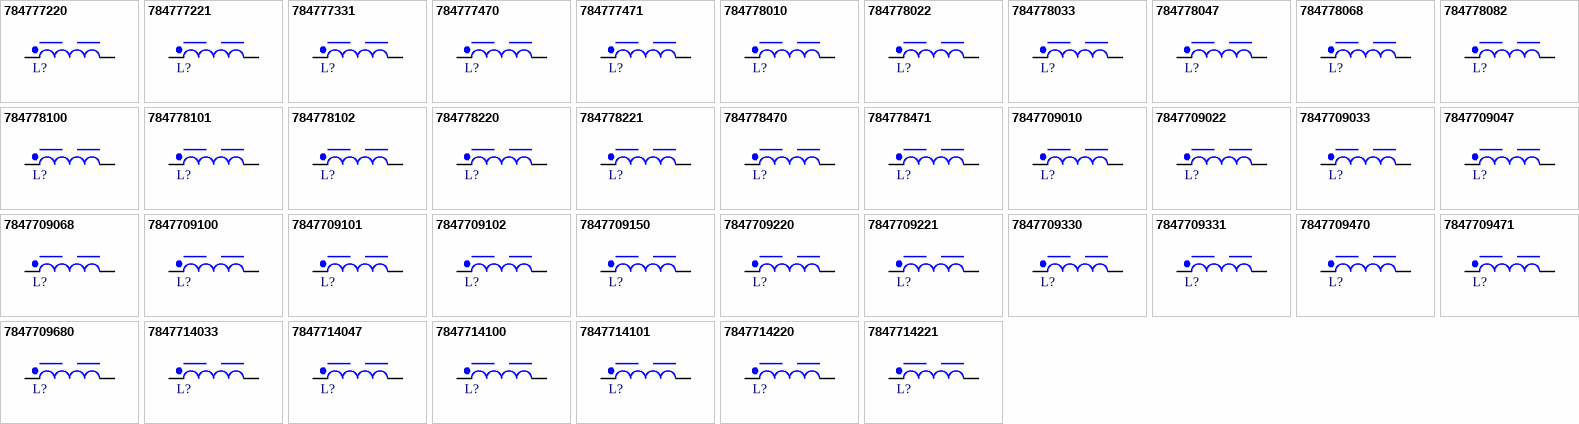
[diagram p1: symbols 784777220 to 7847714221]

## 784777220
designator L?, comment 22uH  (value not drawn)
WE-PDA SMT Shielded Power Inductor, size 7345, 22uH, 1.4A, 215mOhm; Manufacturer Part Number: 784777220; Manufacturer: Wurth Elektronik; Case/Size Code: 7345; DC Resistance: 180mOhm; Saturation Current: 1.8A; Self Resonant Frequency: 18.5MHz; Category: Power Inductors; Match Code: WE-PDA; ComponentLink1Description: Website Link; ComponentLink1URL: https://www.we-online.com/redexpert/article/784777220?ad; ComponentLink2Description: Datasheet Link; ComponentLink2URL: https://www.we-online.com/redexpert/spec/784777220?ad; Mount: Surface Mount; Operating Temperature Max: 125°C; Operating Temperature Min: -40°C; Packaging: Tape and Reel; Length: 7.3mm; Width: 7.3mm; Height: 4mm; Automotive: Yes; DC Resistance Max: 215mOhm; Inductance: 22uH; Rated Current: 1.4A
footprint WE-PDA_7345
simulation model 7345_784777220_22u
pins: 1, 2

## 784777221
designator L?, comment 220uH  (value not drawn)
WE-PDA SMT Shielded Power Inductor, size 7345, 220uH, 0.5A, 1135mOhm; Manufacturer Part Number: 784777221; Manufacturer: Wurth Elektronik; Case/Size Code: 7345; DC Resistance: 945mOhm; Saturation Current: 0.55A; Self Resonant Frequency: 3.9MHz; Category: Power Inductors; Match Code: WE-PDA; ComponentLink1Description: Website Link; ComponentLink1URL: https://www.we-online.com/redexpert/article/784777221?ad; ComponentLink2Description: Datasheet Link; ComponentLink2URL: https://www.we-online.com/redexpert/spec/784777221?ad; Mount: Surface Mount; Operating Temperature Max: 125°C; Operating Temperature Min: -40°C; Packaging: Tape and Reel; Length: 7.3mm; Width: 7.3mm; Height: 4mm; Automotive: Yes; DC Resistance Max: 1135mOhm; Inductance: 220uH; Rated Current: 0.5A
footprint WE-PDA_7345
simulation model 7345_784777221_220u
pins: 1, 2

## 784777331
designator L?, comment 330uH  (value not drawn)
WE-PDA SMT Shielded Power Inductor, size 7345, 330uH, 0.4A, 1872mOhm; Manufacturer Part Number: 784777331; Manufacturer: Wurth Elektronik; Case/Size Code: 7345; DC Resistance: 1560mOhm; Saturation Current: 0.45A; Self Resonant Frequency: 4.2MHz; Category: Power Inductors; Match Code: WE-PDA; ComponentLink1Description: Website Link; ComponentLink1URL: https://www.we-online.com/redexpert/article/784777331?ad; ComponentLink2Description: Datasheet Link; ComponentLink2URL: https://www.we-online.com/redexpert/spec/784777331?ad; Mount: Surface Mount; Operating Temperature Max: 125°C; Operating Temperature Min: -40°C; Packaging: Tape and Reel; Length: 7.3mm; Width: 7.3mm; Height: 4mm; Automotive: Yes; DC Resistance Max: 1872mOhm; Inductance: 330uH; Rated Current: 0.4A
footprint WE-PDA_7345
simulation model 7345_784777331_330u
pins: 1, 2

## 784777470
designator L?, comment 47uH  (value not drawn)
WE-PDA SMT Shielded Power Inductor, size 7345, 47uH, 1.15A, 300mOhm; Manufacturer Part Number: 784777470; Manufacturer: Wurth Elektronik; Case/Size Code: 7345; DC Resistance: 250mOhm; Saturation Current: 1.25A; Self Resonant Frequency: 10MHz; Category: Power Inductors; Match Code: WE-PDA; ComponentLink1Description: Website Link; ComponentLink1URL: https://www.we-online.com/redexpert/article/784777470?ad; ComponentLink2Description: Datasheet Link; ComponentLink2URL: https://www.we-online.com/redexpert/spec/784777470?ad; Mount: Surface Mount; Operating Temperature Max: 125°C; Operating Temperature Min: -40°C; Packaging: Tape and Reel; Length: 7.3mm; Width: 7.3mm; Height: 4mm; Automotive: Yes; DC Resistance Max: 300mOhm; Inductance: 47uH; Rated Current: 1.15A
footprint WE-PDA_7345
simulation model 7345_784777470_47u
pins: 1, 2

## 784777471
designator L?, comment 470uH  (value not drawn)
WE-PDA SMT Shielded Power Inductor, size 7345, 470uH, 0.35A, 2720mOhm; Manufacturer Part Number: 784777471; Manufacturer: Wurth Elektronik; Case/Size Code: 7345; DC Resistance: 2270mOhm; Saturation Current: 0.38A; Self Resonant Frequency: 2.9MHz; Category: Power Inductors; Match Code: WE-PDA; ComponentLink1Description: Website Link; ComponentLink1URL: https://www.we-online.com/redexpert/article/784777471?ad; ComponentLink2Description: Datasheet Link; ComponentLink2URL: https://www.we-online.com/redexpert/spec/784777471?ad; Mount: Surface Mount; Operating Temperature Max: 125°C; Operating Temperature Min: -40°C; Packaging: Tape and Reel; Length: 7.3mm; Width: 7.3mm; Height: 4mm; Automotive: Yes; DC Resistance Max: 2720mOhm; Inductance: 470uH; Rated Current: 0.35A
footprint WE-PDA_7345
simulation model 7345_784777471_470u
pins: 1, 2

## 784778010
designator L?, comment 1uH  (value not drawn)
WE-PDA SMT Shielded Power Inductor, size 7332, 1uH, 3.5A, 36mOhm; Manufacturer Part Number: 784778010; Manufacturer: Wurth Elektronik; Case/Size Code: 7332; DC Resistance: 30mOhm; Saturation Current: 7A; Self Resonant Frequency: 183.7MHz; Category: Power Inductors; Match Code: WE-PDA; ComponentLink1Description: Website Link; ComponentLink1URL: https://www.we-online.com/redexpert/article/784778010?ad; ComponentLink2Description: Datasheet Link; ComponentLink2URL: https://www.we-online.com/redexpert/spec/784778010?ad; Mount: Surface Mount; Operating Temperature Max: 125°C; Operating Temperature Min: -40°C; Packaging: Tape and Reel; Length: 7.3mm; Width: 7.3mm; Height: 3.2mm; Automotive: Yes; DC Resistance Max: 36mOhm; Inductance: 1uH; Rated Current: 3.5A
footprint WE-PDA_7332
simulation model 7332_784778010_1u
pins: 1, 2

## 784778022
designator L?, comment 2.2uH  (value not drawn)
WE-PDA SMT Shielded Power Inductor, size 7332, 2.2uH, 3.1A, 50mOhm; Manufacturer Part Number: 784778022; Manufacturer: Wurth Elektronik; Case/Size Code: 7332; DC Resistance: 42mOhm; Saturation Current: 5A; Self Resonant Frequency: 110.5MHz; Category: Power Inductors; Match Code: WE-PDA; ComponentLink1Description: Website Link; ComponentLink1URL: https://www.we-online.com/redexpert/article/784778022?ad; ComponentLink2Description: Datasheet Link; ComponentLink2URL: https://www.we-online.com/redexpert/spec/784778022?ad; Mount: Surface Mount; Operating Temperature Max: 125°C; Operating Temperature Min: -40°C; Packaging: Tape and Reel; Length: 7.3mm; Width: 7.3mm; Height: 3.2mm; Automotive: Yes; DC Resistance Max: 50mOhm; Inductance: 2.2uH; Rated Current: 3.1A
footprint WE-PDA_7332
simulation model 7332_784778022_2.2u
pins: 1, 2

## 784778033
designator L?, comment 3.3uH  (value not drawn)
WE-PDA SMT Shielded Power Inductor, size 7332, 3.3uH, 2.65A, 65mOhm; Manufacturer Part Number: 784778033; Manufacturer: Wurth Elektronik; Case/Size Code: 7332; DC Resistance: 54mOhm; Saturation Current: 3.7A; Self Resonant Frequency: 71.3MHz; Category: Power Inductors; Match Code: WE-PDA; ComponentLink1Description: Website Link; ComponentLink1URL: https://www.we-online.com/redexpert/article/784778033?ad; ComponentLink2Description: Datasheet Link; ComponentLink2URL: https://www.we-online.com/redexpert/spec/784778033?ad; Mount: Surface Mount; Operating Temperature Max: 125°C; Operating Temperature Min: -40°C; Packaging: Tape and Reel; Length: 7.3mm; Width: 7.3mm; Height: 3.2mm; Automotive: Yes; DC Resistance Max: 65mOhm; Inductance: 3.3uH; Rated Current: 2.65A
footprint WE-PDA_7332
simulation model 7332_784778033_3.3u
pins: 1, 2

## 784778047
designator L?, comment 4.7uH  (value not drawn)
WE-PDA SMT Shielded Power Inductor, size 7332, 4.7uH, 2.4A, 79mOhm; Manufacturer Part Number: 784778047; Manufacturer: Wurth Elektronik; Case/Size Code: 7332; DC Resistance: 66mOhm; Saturation Current: 3.1A; Self Resonant Frequency: 52MHz; Category: Power Inductors; Match Code: WE-PDA; ComponentLink1Description: Website Link; ComponentLink1URL: https://www.we-online.com/redexpert/article/784778047?ad; ComponentLink2Description: Datasheet Link; ComponentLink2URL: https://www.we-online.com/redexpert/spec/784778047?ad; Mount: Surface Mount; Operating Temperature Max: 125°C; Operating Temperature Min: -40°C; Packaging: Tape and Reel; Length: 7.3mm; Width: 7.3mm; Height: 3.2mm; Automotive: Yes; DC Resistance Max: 79mOhm; Inductance: 4.7uH; Rated Current: 2.4A
footprint WE-PDA_7332
simulation model 7332_784778047_4.7u
pins: 1, 2

## 784778068
designator L?, comment 6.8uH  (value not drawn)
WE-PDA SMT Shielded Power Inductor, size 7332, 6.8uH, 2.3A, 94mOhm; Manufacturer Part Number: 784778068; Manufacturer: Wurth Elektronik; Case/Size Code: 7332; DC Resistance: 79mOhm; Saturation Current: 2.5A; Self Resonant Frequency: 40.7MHz; Category: Power Inductors; Match Code: WE-PDA; ComponentLink1Description: Website Link; ComponentLink1URL: https://www.we-online.com/redexpert/article/784778068?ad; ComponentLink2Description: Datasheet Link; ComponentLink2URL: https://www.we-online.com/redexpert/spec/784778068?ad; Mount: Surface Mount; Operating Temperature Max: 125°C; Operating Temperature Min: -40°C; Packaging: Tape and Reel; Length: 7.3mm; Width: 7.3mm; Height: 3.2mm; Automotive: Yes; DC Resistance Max: 94mOhm; Inductance: 6.8uH; Rated Current: 2.3A
footprint WE-PDA_7332
simulation model 7332_784778068_6.8u
pins: 1, 2

## 784778082
designator L?, comment 8.2uH  (value not drawn)
WE-PDA SMT Shielded Power Inductor, size 7332, 8.2uH, 2.2A, 103mOhm; Manufacturer Part Number: 784778082; Manufacturer: Wurth Elektronik; Case/Size Code: 7332; DC Resistance: 86mOhm; Saturation Current: 2.4A; Self Resonant Frequency: 36.9MHz; Category: Power Inductors; Match Code: WE-PDA; ComponentLink1Description: Website Link; ComponentLink1URL: https://www.we-online.com/redexpert/article/784778082?ad; ComponentLink2Description: Datasheet Link; ComponentLink2URL: https://www.we-online.com/redexpert/spec/784778082?ad; Mount: Surface Mount; Operating Temperature Max: 125°C; Operating Temperature Min: -40°C; Packaging: Tape and Reel; Length: 7.3mm; Width: 7.3mm; Height: 3.2mm; Automotive: Yes; DC Resistance Max: 103mOhm; Inductance: 8.2uH; Rated Current: 2.2A
footprint WE-PDA_7332
simulation model 7332_784778082_8.2u
pins: 1, 2

## 784778100
designator L?, comment 10uH  (value not drawn)
WE-PDA SMT Shielded Power Inductor, size 7332, 10uH, 1.85A, 126mOhm; Manufacturer Part Number: 784778100; Manufacturer: Wurth Elektronik; Case/Size Code: 7332; DC Resistance: 105mOhm; Saturation Current: 2.2A; Self Resonant Frequency: 34.1MHz; Category: Power Inductors; Match Code: WE-PDA; ComponentLink1Description: Website Link; ComponentLink1URL: https://www.we-online.com/redexpert/article/784778100?ad; ComponentLink2Description: Datasheet Link; ComponentLink2URL: https://www.we-online.com/redexpert/spec/784778100?ad; Mount: Surface Mount; Operating Temperature Max: 125°C; Operating Temperature Min: -40°C; Packaging: Tape and Reel; Length: 7.3mm; Width: 7.3mm; Height: 3.2mm; Automotive: Yes; DC Resistance Max: 126mOhm; Inductance: 10uH; Rated Current: 1.85A
footprint WE-PDA_7332
simulation model 7332_784778100_10u
pins: 1, 2

## 784778101
designator L?, comment 100uH  (value not drawn)
WE-PDA SMT Shielded Power Inductor, size 7332, 100uH, 0.72A, 720mOhm; Manufacturer Part Number: 784778101; Manufacturer: Wurth Elektronik; Case/Size Code: 7332; DC Resistance: 600mOhm; Saturation Current: 0.75A; Self Resonant Frequency: 9.7MHz; Category: Power Inductors; Match Code: WE-PDA; ComponentLink1Description: Website Link; ComponentLink1URL: https://www.we-online.com/redexpert/article/784778101?ad; ComponentLink2Description: Datasheet Link; ComponentLink2URL: https://www.we-online.com/redexpert/spec/784778101?ad; Mount: Surface Mount; Operating Temperature Max: 125°C; Operating Temperature Min: -40°C; Packaging: Tape and Reel; Length: 7.3mm; Width: 7.3mm; Height: 3.2mm; Automotive: Yes; DC Resistance Max: 720mOhm; Inductance: 100uH; Rated Current: 0.72A
footprint WE-PDA_7332
simulation model 7332_784778101_100u
pins: 1, 2

## 784778102
designator L?, comment 1000uH  (value not drawn)
WE-PDA SMT Shielded Power Inductor, size 7332, 1000uH, 0.23A, 7200mOhm; Manufacturer Part Number: 784778102; Manufacturer: Wurth Elektronik; Case/Size Code: 7332; DC Resistance: 6000mOhm; Saturation Current: 0.25A; Self Resonant Frequency: 2.5MHz; Category: Power Inductors; Match Code: WE-PDA; ComponentLink1Description: Website Link; ComponentLink1URL: https://www.we-online.com/redexpert/article/784778102?ad; ComponentLink2Description: Datasheet Link; ComponentLink2URL: https://www.we-online.com/redexpert/spec/784778102?ad; Mount: Surface Mount; Operating Temperature Max: 125°C; Operating Temperature Min: -40°C; Packaging: Tape and Reel; Length: 7.3mm; Width: 7.3mm; Height: 3.2mm; Automotive: Yes; DC Resistance Max: 7200mOhm; Inductance: 1000uH; Rated Current: 0.23A
footprint WE-PDA_7332
simulation model 7332_784778102_1000u
pins: 1, 2

## 784778220
designator L?, comment 22uH  (value not drawn)
WE-PDA SMT Shielded Power Inductor, size 7332, 22uH, 1.55A, 187mOhm; Manufacturer Part Number: 784778220; Manufacturer: Wurth Elektronik; Case/Size Code: 7332; DC Resistance: 156mOhm; Saturation Current: 1.6A; Self Resonant Frequency: 17.2MHz; Category: Power Inductors; Match Code: WE-PDA; ComponentLink1Description: Website Link; ComponentLink1URL: https://www.we-online.com/redexpert/article/784778220?ad; ComponentLink2Description: Datasheet Link; ComponentLink2URL: https://www.we-online.com/redexpert/spec/784778220?ad; Mount: Surface Mount; Operating Temperature Max: 125°C; Operating Temperature Min: -40°C; Packaging: Tape and Reel; Length: 7.3mm; Width: 7.3mm; Height: 3.2mm; Automotive: Yes; DC Resistance Max: 187mOhm; Inductance: 22uH; Rated Current: 1.55A
footprint WE-PDA_7332
simulation model 7332_784778220_22u
pins: 1, 2